# Altium schematic symbol library SCH - MCU - TI - TI MSPM0L110X VQFN-24 RGE.SchLib: 1 symbol
Pins are listed as number, name and electrical type; pins without a type are passive.

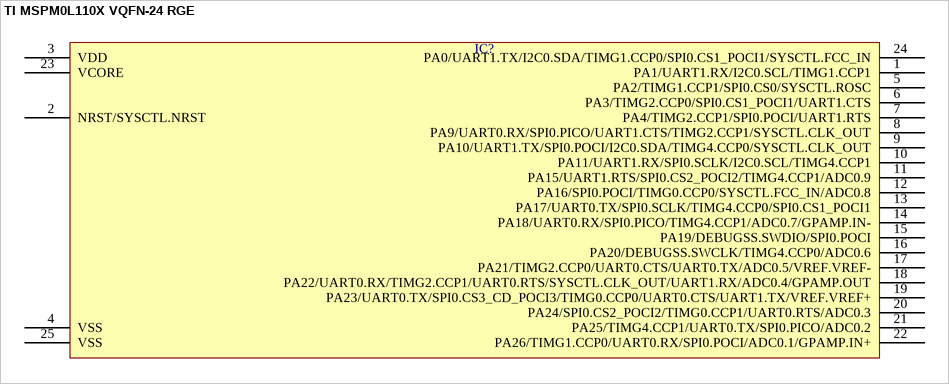
[diagram p0: symbol TI MSPM0L110X VQFN-24 RGE]

## TI MSPM0L110X VQFN-24 RGE
designator IC?  (value not drawn)
pins: 1 PA1/UART1.RX/I2C0.SCL/TIMG1.CCP1, 2 NRST/SYSCTL.NRST, 3 VDD, 4 VSS, 5 PA2/TIMG1.CCP1/SPI0.CS0/SYSCTL.ROSC, 6 PA3/TIMG2.CCP0/SPI0.CS1_POCI1/UART1.CTS, 7 PA4/TIMG2.CCP1/SPI0.POCI/UART1.RTS, 8 PA9/UART0.RX/SPI0.PICO/UART1.CTS/TIMG2.CCP1/SYSCTL.CLK_OUT, 9 PA10/UART1.TX/SPI0.POCI/I2C0.SDA/TIMG4.CCP0/SYSCTL.CLK_OUT, 10 PA11/UART1.RX/SPI0.SCLK/I2C0.SCL/TIMG4.CCP1, 11 PA15/UART1.RTS/SPI0.CS2_POCI2/TIMG4.CCP1/ADC0.9, 12 PA16/SPI0.POCI/TIMG0.CCP0/SYSCTL.FCC_IN/ADC0.8, 13 PA17/UART0.TX/SPI0.SCLK/TIMG4.CCP0/SPI0.CS1_POCI1, 14 PA18/UART0.RX/SPI0.PICO/TIMG4.CCP1/ADC0.7/GPAMP.IN-, 15 PA19/DEBUGSS.SWDIO/SPI0.POCI, 16 PA20/DEBUGSS.SWCLK/TIMG4.CCP0/ADC0.6, 17 PA21/TIMG2.CCP0/UART0.CTS/UART0.TX/ADC0.5/VREF.VREF-, 18 PA22/UART0.RX/TIMG2.CCP1/UART0.RTS/SYSCTL.CLK_OUT/UART1.RX/ADC0.4/GPAMP.OUT, 19 PA23/UART0.TX/SPI0.CS3_CD_POCI3/TIMG0.CCP0/UART0.CTS/UART1.TX/VREF.VREF+, 20 PA24/SPI0.CS2_POCI2/TIMG0.CCP1/UART0.RTS/ADC0.3, 21 PA25/TIMG4.CCP1/UART0.TX/SPI0.PICO/ADC0.2, 22 PA26/TIMG1.CCP0/UART0.RX/SPI0.POCI/ADC0.1/GPAMP.IN+, 23 VCORE, 24 PA0/UART1.TX/I2C0.SDA/TIMG1.CCP0/SPI0.CS1_POCI1/SYSCTL.FCC_IN, 25 VSS